# Altium footprint library XTD Module.PcbLib: 62 footprints (part 2 of 4)
Each footprint in its own frame and in the unit in brackets; x right, y up, seen from the top. Pads: shape width x height; smd on the part's side, far side on the other; paste and mask are expansions set on the pad; w line width, h text height; cw(c..) or ccw(c..) is an arc to the next point about the centre after c.
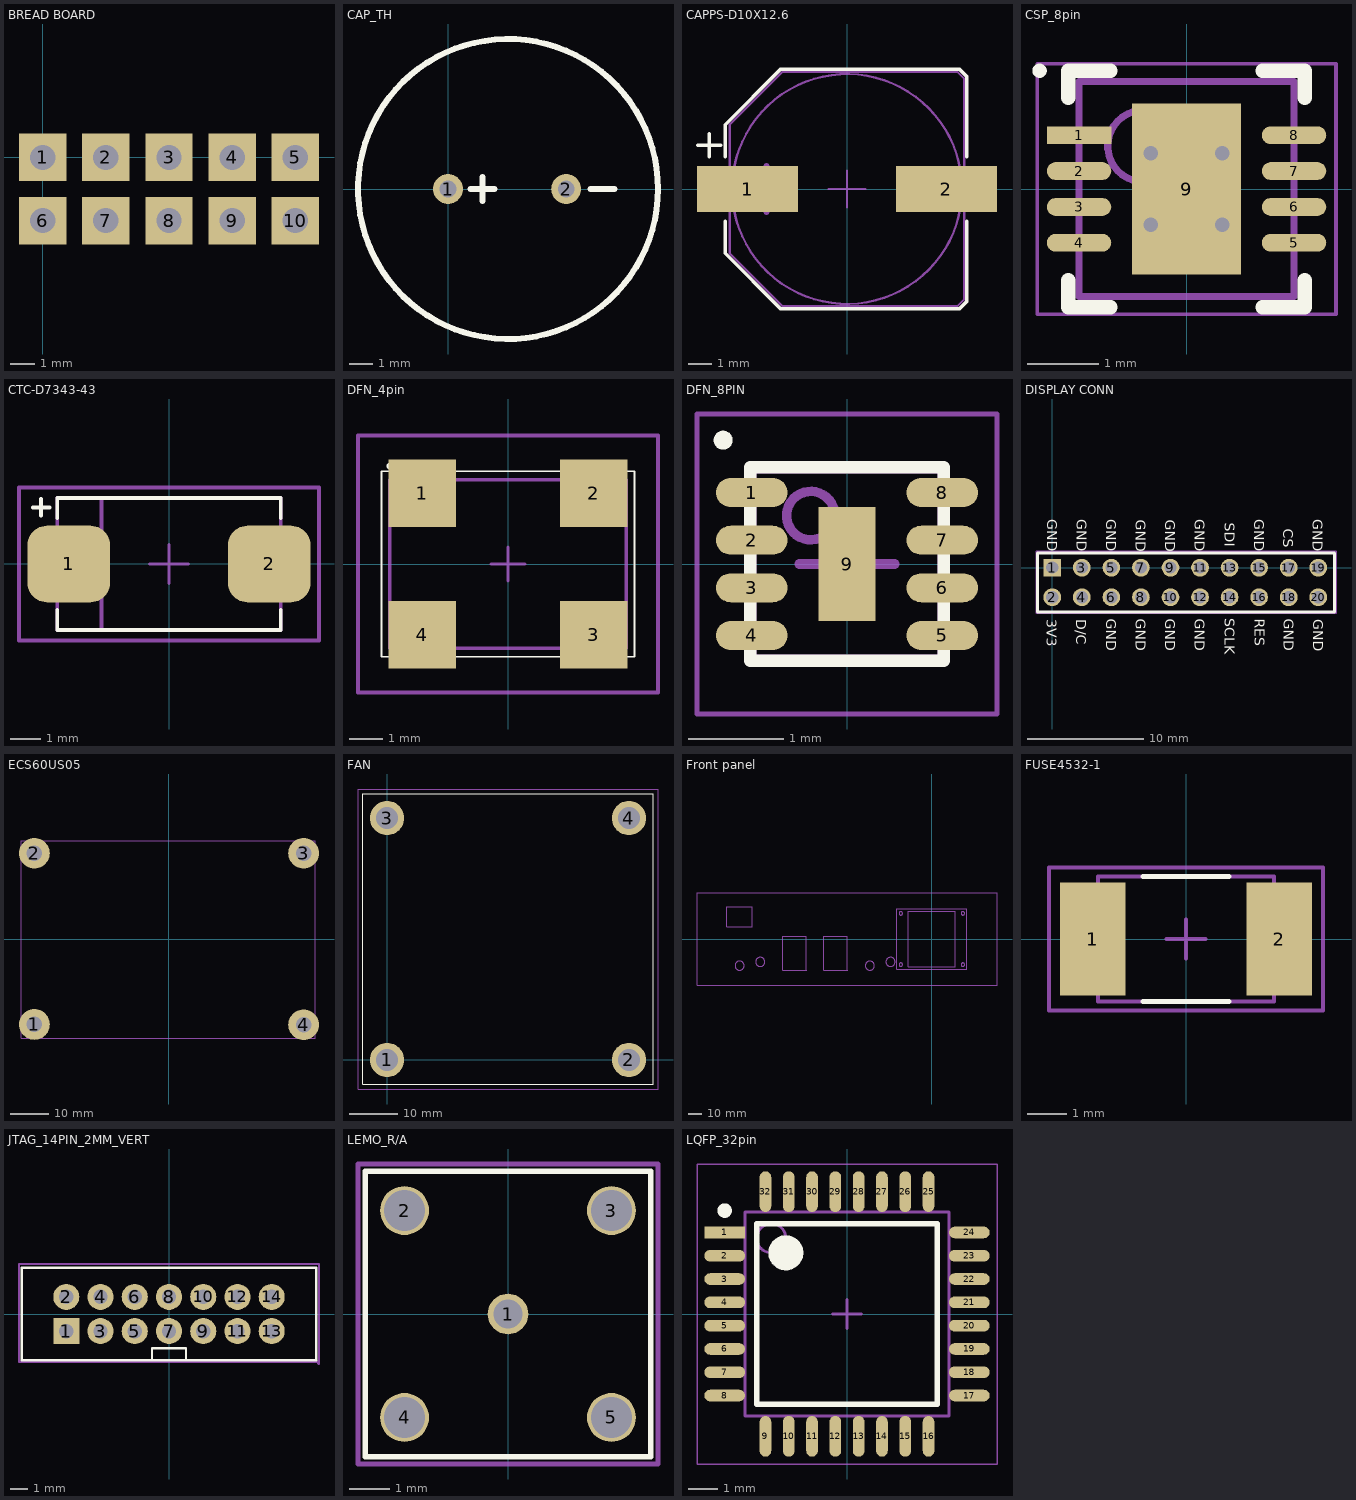
[diagram p1: the footprints below, top view; thin cyan lines are the x and y axes]

## BREAD BOARD [mil] "2X5 .1IN BREAD BAORD"
pads (10):
  rect 75x75 hole 40: 1(0,0) 2(100,0) 3(200,0) 4(300,0) 5(400,0) 6(0,-100) 7(100,-100) 8(200,-100) 9(300,-100) 10(400,-100)

## CAP_TH [mil]
pads (2):
  round 50 hole 28: 1(0,0) 2(197,0)
Top Overlay:
  circle w10: c100,0 r250.2
  lines w10: 37.75,0 77.75,0 ; 57.75,-20 57.75,20 ; 237.75,0 277.75,0
3D body: height 100, standoff 0, extent 186.01,-10.99 208.01,11
3D body: height 100, standoff 0, extent -10.99,-10.99 11,11
3D body: height 787, standoff 0, extent -145.59,-245.89 346.01,245.91

## CAPPS-D10X12.6 [mm] "Capacitor polarised SMD D10; 10.2x10.2x12.6mm"
height 12
pads (2):
  rect 4.4x2 smd: 1(-4.325,0) 2(4.325,0)
Top Overlay:
  lines w0.15: -6.5,1.9 -5.5,1.9 ; -6,1.4 -6,2.4 ; -5.3,-1.4 -5.3,-2.8 -2.9,-5.2 4.9,-5.2 5.2,-4.9 5.2,-1.4 ; -5.3,1.4 -5.3,2.8 -2.9,5.2 4.9,5.2 5.2,4.9 5.2,1.4
Mechanical 13:
  circle w0.1: c0,0 r5
  lines w0.102: -5.1,-2.8 -2.8,-5.1 4.8,-5.1 5.1,-4.8 5.1,4.8 4.8,5.1 -2.8,5.1 -5.1,2.8 -5.1,-2.8
  lines w0.25: -4.5,0 -2.5,0 ; -3.5,-1 -3.5,1
Mechanical 15:
  lines w0.102: -0.8,0 0.8,0 ; 0,-0.8 0,0.8
3D body: height 12.65, standoff 12.6, extent 2.75,-4.175 5,4.175
3D body: height 12.6, standoff 1.4, extent -5.039,-5.01 4.961,4.99
3D body: height 1.4, standoff 0, extent -5.1,-5.1 5.1,5.1

## CSP_8pin [mm] "SON, 8-Leads, Body 3.00x3.00mm, Pitch 0.50mm, Thermal Pad 2.38x1.52mm, IPC Medium Density"
height 0.75
pads (9):
  rect 0.9x0.25 smd: 1(-1.5,0.75)
  oval 0.9x0.25 smd: 2(-1.5,0.25) 3(-1.5,-0.25) 4(-1.5,-0.75) 5(1.5,-0.75) 6(1.5,-0.25) 7(1.5,0.25) 8(1.5,0.75)
  rect 1.52x2.38 smd: 9(0,0)
via -0.5,0.5 diameter 0.5 hole 0.2
via 0.5,0.5 diameter 0.5 hole 0.2
via -0.5,-0.5 diameter 0.5 hole 0.2
via 0.5,-0.5 diameter 0.5 hole 0.2
Top Overlay:
  circle w0.1: c-2.05,1.65 r0.05
  lines w0.2: -1.65,-1.275 -1.65,-1.65 -1.06,-1.65 ; -1.65,1.275 -1.65,1.65 -1.06,1.65 ; 1.06,-1.65 1.65,-1.65 1.65,-1.275 ; 1.06,1.65 1.65,1.65 1.65,1.275
Mechanical 13:
  circle w0.1: c-0.6,0.6 r0.5
  lines w0.1: -1.5,-1.5 -1.5,1.5 1.5,1.5 1.5,-1.5 -1.5,-1.5
Mechanical 15:
  lines w0.05: -2.085,-1.75 -2.085,1.75 2.085,1.75 2.085,-1.75 -2.085,-1.75
  lines w0.1: -0.5,0 0.5,0 ; 0,-0.5 0,0.5
3D body: height 0.75, standoff 0.02, extent -1.5,-1.5 1.5,1.5

## CTC-D7343-43 [mm] "Capacitor Tantal Chip D - 7343, H=4.3mm"
height 4.3
pads (2):
  rrect50% 2.7x2.5 smd: 1(-3.275,0) 2(3.275,0)
Top Overlay:
  lines w0.127: -4.45,1.85 -3.9,1.85 ; -4.175,1.575 -4.175,2.125 ; -3.65,-1.5 -3.65,-2.15 3.65,-2.15 3.65,-1.5 ; -3.65,1.5 -3.65,2.15 3.65,2.15 3.65,1.5
Mechanical 13:
  lines w0.127: -3.25,0 -2.65,0 ; -2.95,-0.3 -2.95,0.3 ; -2.2,-2.15 -2.2,2.15 ; -3.65,-2.15 3.65,-2.15 3.65,2.15 -3.65,2.15 -3.65,-2.15
Mechanical 15:
  lines w0.102: -0.635,0 0.635,0 ; 0,-0.635 0,0.635
  lines w0.127: -4.9,-2.5 -4.9,2.5 4.9,2.5 4.9,-2.5 -4.9,-2.5
3D body: height 4.31, standoff 4.3, extent -3.65,-2.15 -2.2,2.15
3D body: height 4.3, standoff 0, extent -3.65,-2.15 3.65,2.15
3D body: height 2.3, standoff 0, extent -4,-1.1 -3.65,1.1
3D body: height 2.3, standoff 0, extent 3.65,-1.1 4,1.1

## DFN_4pin [mm] "DFN, 4-Leads, Body 5.00x7.00mm, Pitch 5.08mm, IPC Medium Density"
height 1.6
pads (4):
  rect 2x2 smd: 1(-2.54,2.1) 2(2.54,2.1) 3(2.54,-2.1) 4(-2.54,-2.1)
Top Overlay:
  circle w0.1: c-3.5,2.9 r0.05
  lines w0.05: -3.75,-2.75 3.75,-2.75 3.75,2.75 -3.75,2.75 -3.75,-2.75
Mechanical 13:
  lines w0.1: -3.5,-2.5 -3.5,2.5 3.5,2.5 3.5,-2.5 -3.5,-2.5
Mechanical 15:
  lines w0.1: -0.5,0 0.5,0 ; 0,-0.5 0,0.5
  lines w0.127: -4.445,-3.81 -4.445,3.81 3.81,3.81 4.445,3.81 4.445,-3.81 -4.445,-3.81
3D body: height 1.6, standoff 0.2, extent -3.5,-2.5 3.5,2.5

## DFN_8PIN [mm] "DFN, 8-Leads, Body 2.00x2.00mm, Pitch 0.50mm, Thermal Pad 1.55x1.55mm, IPC Medium Density"
height 0.9
pads (9):
  oval 0.75x0.305 smd mask+0.051: 1(-1,0.75) 2(-1,0.25) 3(-1,-0.25) 4(-1,-0.75) 5(1,-0.75) 6(1,-0.25) 7(1,0.25) 8(1,0.75)
  rect 0.6x1.2 smd: 9(0,0)
Top Overlay:
  circle w0.1: c-1.3,1.3 r0.05
  lines w0.127: -1.016,-1.016 -1.016,1.016 1.016,1.016 1.016,-1.016 -1.016,-1.016
Mechanical 13:
  circle w0.1: c-0.381,0.508 r0.254
  lines w0.1: -1,-1 1,-1 1,1 -1,1 -1,-1
Mechanical 15:
  lines w0.05: -1.575,-1.575 1.575,-1.575 1.575,1.575 -1.575,1.575 -1.575,-1.575
  lines w0.1: -0.5,0 0.5,0 ; 0,-0.5 0,0.5
3D body: height 0.9, standoff 0.05, extent -1,-1 1,1

## DISPLAY [mm] "DISPLAY"
height 2.54
3D body: height 42.95, standoff 2.05, extent 1.617,8.509 3.717,43.509
3D body: height 45, standoff 0, extent 0,0 1.6,52

## DISPLAY CONN [mil] "DISPLAY"
height 100
pads (20):
  rect 60x60 hole 41: 1(0,0)
  round 60 hole 41: 2(0,-100) 3(100,0) 4(100,-100) 5(200,0) 6(200,-100) 7(300,0) 8(300,-100) 9(400,0) 10(400,-100) 11(500,0) 12(500,-100) 13(600,0) 14(600,-100) 15(700,0) 16(700,-100) 17(800,0) 18(800,-100) 19(900,0) 20(900,-100)
Top Overlay:
  lines w10: -50,-150 955,-150 955,50 550,50 150,50 -50,50 -50,-150
  text "D/C" at 81.06,-173.76 h35
  text "3V3" at -17.91,-174.21 h35
  text "GND" at 182.51,163.77 h35
  text "SDI" at 582.99,151.75 h35
  text "SCLK" at 582.85,-170.66 h35
  text "RES" at 684.67,-173.24 h35
  text "CS" at 781.9,131.43 h35
  text "GND" at 82.51,163.77 h35
  text "GND" at -17.49,163.77 h35
  text "GND" at 282.67,161.8 h35
  text "GND" at 382.79,162.16 h35
  text "GND" at 482.72,163.24 h35
  text "GND" at 682.98,164.32 h35
  text "GND" at 882.16,164.05 h35
  text "GND" at 182.41,-173.29 h35
  text "GND" at 283.3,-173.29 h35
  text "GND" at 383.09,-172.52 h35
  text "GND" at 482.74,-172.52 h35
  text "GND" at 783.15,-173.24 h35
  text "GND" at 882.59,-174.44 h35
Mechanical 15:
  lines w5: -55,-155 -55,55 960,55 960,-155 -55,-155
3D body: height 100, standoff 0, extent 887.5,-12.5 912.5,12.5
3D body: height 100, standoff 0, extent 887.5,-112.5 912.5,-87.5
3D body: height 100, standoff 0, extent 787.5,-12.5 812.5,12.5
3D body: height 100, standoff 0, extent 787.5,-112.5 812.5,-87.5
3D body: height 100, standoff 0, extent 687.5,-12.5 712.5,12.5
3D body: height 100, standoff 0, extent 687.5,-112.5 712.5,-87.5
3D body: height 100, standoff 0, extent 487.5,-12.5 512.5,12.5
3D body: height 100, standoff 0, extent 487.5,-112.5 512.5,-87.5
3D body: height 100, standoff 0, extent 287.5,-12.5 312.5,12.5
3D body: height 100, standoff 0, extent 287.5,-112.5 312.5,-87.5
3D body: height 100, standoff 0, extent 387.5,-12.5 412.5,12.5
3D body: height 100, standoff 0, extent 387.5,-112.5 412.5,-87.5
3D body: height 100, standoff 0, extent 587.5,-12.5 612.5,12.5
3D body: height 100, standoff 0, extent 587.5,-112.5 612.5,-87.5
3D body: height 100, standoff 0, extent 187.5,-12.5 212.5,12.5
3D body: height 100, standoff 0, extent 187.5,-112.5 212.5,-87.5
3D body: height 100, standoff 0, extent 87.5,-12.5 112.5,12.5
3D body: height 100, standoff 0, extent 87.5,-112.5 112.5,-87.5
3D body: height 100, standoff 0, extent -12.5,-112.5 12.5,-87.5
3D body: height 100, standoff 0, extent -12.5,-12.5 12.5,12.5
3D body: height 413.39, standoff 0, extent -51.18,-151.18 950,53.54

## ECS60US05 [mm] "AC-DC Convertor, 5V at 8A"
height 26.7
pads (4):
  round 8 hole 4: 1(-34.9,-22.16) 2(-34.9,22.24) 3(34.9,22.24) 4(34.9,-22.24)
Mechanical 13:
  lines w0.254: -38.254,-25.721 -38.254,25.006 -38.254,25.46 37.946,25.46 37.946,-25.721 -38.254,-25.721
3D body: height 25.73, standoff -2.21, extent -38.254,-25.721 37.946,25.329

## FAN [mil] "FAN AXIAL 60X15MM BALL 5VDC WIRE"
height 590
pads (4):
  round 280 hole 180: 1(0,0) 2(1968.5,0) 3(0,1968.5) 4(1968.5,1968.5)
Top Overlay:
  lines w5: -196.85,-196.85 -196.85,2165.35 2165.35,2165.35 2165.35,-196.85 -196.85,-196.85
Mechanical 15:
  lines w5: -236.22,-236.22 2204.72,-236.22 2204.72,2204.72 -236.22,2204.72 -236.22,-236.22
3D body: height 1590, standoff 1000, extent -196.85,-196.85 2165.35,2165.35
3D body: height 1000, standoff 0, extent 1844.01,1843.64 2093.51,2093.38
3D body: height 1000, standoff 0, extent -124.49,1843.64 125,2093.38
3D body: height 1000, standoff 0, extent 1844.01,-124.87 2093.51,124.88
3D body: height 1000, standoff 0, extent -124.49,-124.87 125,124.88

## Front panel [mm] "Double NIM fornt panel"
height 3.556
Mechanical 13:
  circle w0.025: c-23,19 r1.27
  circle w0.025: c-30.658,-16.967 r3.378
  circle w0.025: c-45.898,-19.761 r3.378
  circle w0.025: c-127.178,-16.967 r3.378
  circle w0.025: c-142.418,-19.761 r3.378
  circle w0.025: c-23,-19 r1.27
  circle w0.025: c23,-19 r1.27
  circle w0.025: c23,19 r1.27
  lines w0.254: -173.99,-34.29 48.26,-34.29 48.26,34.29 -173.99,34.29 -173.99,-34.29 ; -151.943,9.22 -151.943,23.825 -132.893,23.825 -132.893,9.22 -151.943,9.22 ; -110.414,-23.292 -93.142,-23.292 -93.091,-23.343 -93.091,1.854 -110.414,1.854 -110.414,-23.292 ; -79.934,-23.292 -79.934,1.854 -62.611,1.854 -62.611,-23.343 -62.662,-23.292 -79.934,-23.292 ; -26,-22.5 26,-22.5 26,22.5 -26,22.5 -26,-22.5 ; -17.5,-20.4 17.5,-20.4 17.5,20.5 -17.5,20.5 -17.5,-20.4
  text "RJ45" at -145.288,19.304 h1.27
  text "750mils" at -146.964,24.257 h1.27
  text "LEMO" at -138.938,-23.876 h1.27
  text "DB:H" at -138.938,-25.908 h1.27
  text "SMA" at -124.206,-20.828 h1.27
  text "SMA" at -36.068,-13.716 h1.27
  text "LEMO" at -52.578,-16.256 h1.27
  text "DB:H" at -124.206,-22.86 h1.27
  text "2X1 RJ45" at -106.68,-7.62 h1.27
  text "2X1 RJ45" at -76.454,-7.874 h1.27
  text "682X992" at -105.918,-9.906 h1.27
  text "682X992" at -75.438,-9.906 h1.27
  text "DISPLAY" at -3.302,5.588 h1.27
  text "2057X1782" at -4.064,3.048 h1.27
  text "575mils" at -153.949,20.244 h1.27
  text "992mils" at -112.319,-7.925 h1.27
  text "682mils" at -105.689,2.413 h1.27
  text "682mils" at -74.905,2.261 h1.27
  text "992mils" at -81.686,-7.849 h1.27
  text "1388mils" at -5.08,18.491 h1.27
  text "1620mils" at -19.456,3.912 h1.27

## FUSE4532-1 [mil]
pads (2):
  rect 66x114 smd: 1(-94,0) 2(94,0)
Top Overlay:
  lines w5: -43.31,-62.99 43.31,-62.99 ; -43.31,62.99 43.31,62.99
Mechanical 13:
  lines w3.94: -88.58,-62.99 88.58,-62.99 88.58,-17.72 78.74,-7.87 78.74,7.87 88.58,17.72 88.58,62.99 -88.58,62.99 -88.58,17.72 -78.74,7.87 -78.74,-7.87 -88.58,-17.72 -88.58,-62.99
Mechanical 15:
  lines w3.94: -19.68,0 19.69,0 ; 0,-19.68 0,19.69 ; -138,-72 138,-72 138,72 -138,72 -138,-72
3D body: height 33.46, standoff 0, extent -88.58,-62.99 88.58,62.99
3D body: height 33.86, standoff 33.46, extent -74.8,-62.99 -49.21,62.99

## JTAG_14PIN_2MM_VERT [mil]
height 173.23
pads (14):
  rect 60x60 hole 33: 1(-236.22,-39.37)
  round 60 hole 33: 2(-236.22,39.37) 3(-157.48,-39.37) 4(-157.48,39.37) 5(-78.74,-39.37) 6(-78.74,39.37) 7(0,-39.37) 8(0,39.37) 9(78.74,-39.37) 10(78.74,39.37) 11(157.48,-39.37) 12(157.48,39.37) 13(236.22,-39.37) 14(236.22,39.37)
Top Overlay:
  lines w5: -39.37,-106.3 -39.37,-78.74 39.37,-78.74 39.37,-106.3 ; -338.58,-106.3 338.58,-106.3 338.58,106.3 -338.58,106.3 -338.58,-106.3
Mechanical 15:
  lines w5: -345,-110 -345,115 345,115 345,-115 340,-110 -345,-110
3D body: height 208.66, standoff -102.36, extent 216.7,-59.01 255.91,-19.72
3D body: height 208.66, standoff -102.36, extent 216.7,19.73 255.91,59.02
3D body: height 208.66, standoff -102.36, extent 137.96,-59.01 177.17,-19.72
3D body: height 208.66, standoff -102.36, extent 137.96,19.73 177.17,59.02
3D body: height 208.66, standoff -102.36, extent 59.22,-59.01 98.43,-19.72
3D body: height 208.66, standoff -102.36, extent 59.22,19.73 98.43,59.02
3D body: height 208.66, standoff -102.36, extent -19.52,-59.01 19.69,-19.72
3D body: height 208.66, standoff -102.36, extent -19.52,19.73 19.69,59.02
3D body: height 208.66, standoff -102.36, extent -98.26,-59.01 -59.05,-19.72
3D body: height 208.66, standoff -102.36, extent -98.26,19.73 -59.05,59.02
3D body: height 208.66, standoff -102.36, extent -177,-59.01 -137.79,-19.72
3D body: height 208.66, standoff -102.36, extent -177,19.73 -137.79,59.02
3D body: height 208.66, standoff -102.36, extent -255.74,-59.01 -216.53,-19.72
3D body: height 70.87, standoff 0, extent -338.58,-106.3 338.58,106.3
3D body: height 208.66, standoff -102.36, extent -255.74,19.73 -216.52,59.02

## LEMO_R/A [mm] "EPA.00.250.NTN, RIGHT ANGLE"
height 7
pads (5):
  round 1 hole 0.7: 1(0,0)
  round 1.2 hole 1: 2(-2.54,2.54) 3(2.54,2.54) 4(-2.54,-2.54) 5(2.54,-2.54)
Top Overlay:
  lines w0.127: -3.505,-3.505 3.505,-3.505 3.505,3.505 -3.505,3.505 -3.505,-3.505
Mechanical 15:
  lines w0.127: -3.683,-3.683 3.683,-3.683 3.683,3.683 -3.683,3.683 -3.683,-3.683
3D body: height 7, standoff 0, extent -3.5,-3.5 3.5,3.5
3D body: height 3, standoff 0, extent 2.192,-2.89 2.89,-2.19
3D body: height 3, standoff 0, extent -2.888,-2.89 -2.19,-2.19
3D body: height 3, standoff 0, extent -0.25,-0.25 0.25,0.25
3D body: height 3, standoff 0, extent 2.192,2.19 2.89,2.89
3D body: height 3, standoff 0, extent -2.888,2.191 -2.19,2.89
3D body: height 6.8, standoff 0, extent 3.5,-3.4 14,3.4

## LQFP_32pin [mm] "LQFP, 32-Leads, Body 7.00x7.00mm, Pitch 0.80mm, IPC Medium Density"
height 1.6
pads (32):
  rect 1.4x0.4 smd: 1(-4.2,2.8)
  oval 1.4x0.4 smd: 2(-4.2,2) 3(-4.2,1.2) 4(-4.2,0.4) 5(-4.2,-0.4) 6(-4.2,-1.2) 7(-4.2,-2) 8(-4.2,-2.8) 17(4.2,-2.8) 18(4.2,-2) 19(4.2,-1.2) 20(4.2,-0.4) 21(4.2,0.4) 22(4.2,1.2) 23(4.2,2) 24(4.2,2.8)
  oval 0.4x1.4 smd: 9(-2.8,-4.2) 10(-2,-4.2) 11(-1.2,-4.2) 12(-0.4,-4.2) 13(0.4,-4.2) 14(1.2,-4.2) 15(2,-4.2) 16(2.8,-4.2) 25(2.8,4.2) 26(2,4.2) 27(1.2,4.2) 28(0.4,4.2) 29(-0.4,4.2) 30(-1.2,4.2) 31(-2,4.2) 32(-2.8,4.2)
Top Overlay:
  circle w0.6: c-2.1,2.1 r0.3
  circle w0.25: c-4.2,3.55 r0.125
  lines w0.2: -3.1,-3.1 3.1,-3.1 3.1,3.1 -3.1,3.1 -3.1,-3.1
Mechanical 13:
  circle w0.1: c-2.6,2.6 r0.5
  lines w0.1: -3.5,-3.5 3.5,-3.5 3.5,3.5 -3.5,3.5 -3.5,-3.5
Mechanical 15:
  lines w0.05: -5.15,-5.15 5.15,-5.15 5.15,5.15 -5.15,5.15 -5.15,-5.15
  lines w0.1: -0.5,0 0.5,0 ; 0,-0.5 0,0.5
3D body: height 1.6, standoff 0.15, extent -3.5,-3.5 3.5,3.5